# EAGLE library part 8516-4500PL (library SPI_Switch)
8516-4500PL Polarized Boardmount Socket
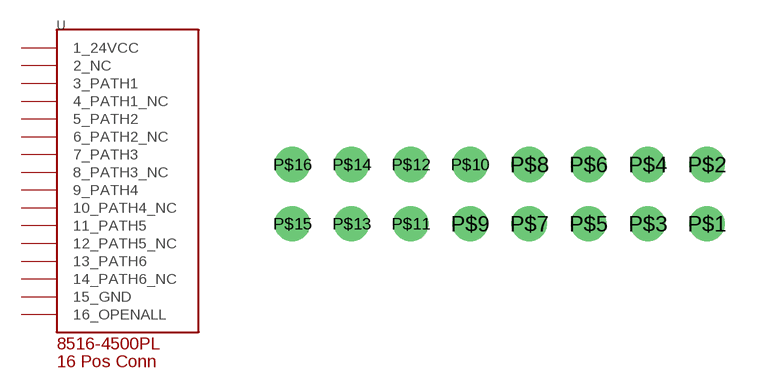
[diagram p2: symbol with the pads of 8516-4500PL; footprint 8516-4500PL]

Designator prefix -

## 8516-4500PL  [8516-4500PL]
P$1  1_24VCC
P$2  2_NC  nc
P$3  3_PATH1
P$4  4_PATH1_NC  nc
P$5  5_PATH2
P$6  6_PATH2_NC  nc
P$7  7_PATH3
P$8  8_PATH3_NC  nc
P$9  9_PATH4
P$10  10_PATH4_NC  nc
P$11  11_PATH5
P$12  12_PATH5_NC  nc
P$13  13_PATH6
P$14  14_PATH6_NC  nc
P$15  15_GND
P$16  16_OPENALL

## Footprint 8516-4500PL (pad centres in mm)
8516-4500PL Polarized Boardmount Socket
drill 1.003: P$1 17.78,0; P$2 17.78,2.54; P$3 15.24,0; P$4 15.24,2.54; P$5 12.7,0; P$6 12.7,2.54; P$7 10.16,0; P$8 10.16,2.54; P$9 7.62,0; P$10 7.62,2.54; P$11 5.08,0; P$12 5.08,2.54; P$13 2.54,0; P$14 2.54,2.54; P$15 0,0; P$16 0,2.54